# Altium schematic symbol library Schlib_Acura.SchLib: 57 symbols
Pins are listed as number, name and electrical type; pins without a type are passive.

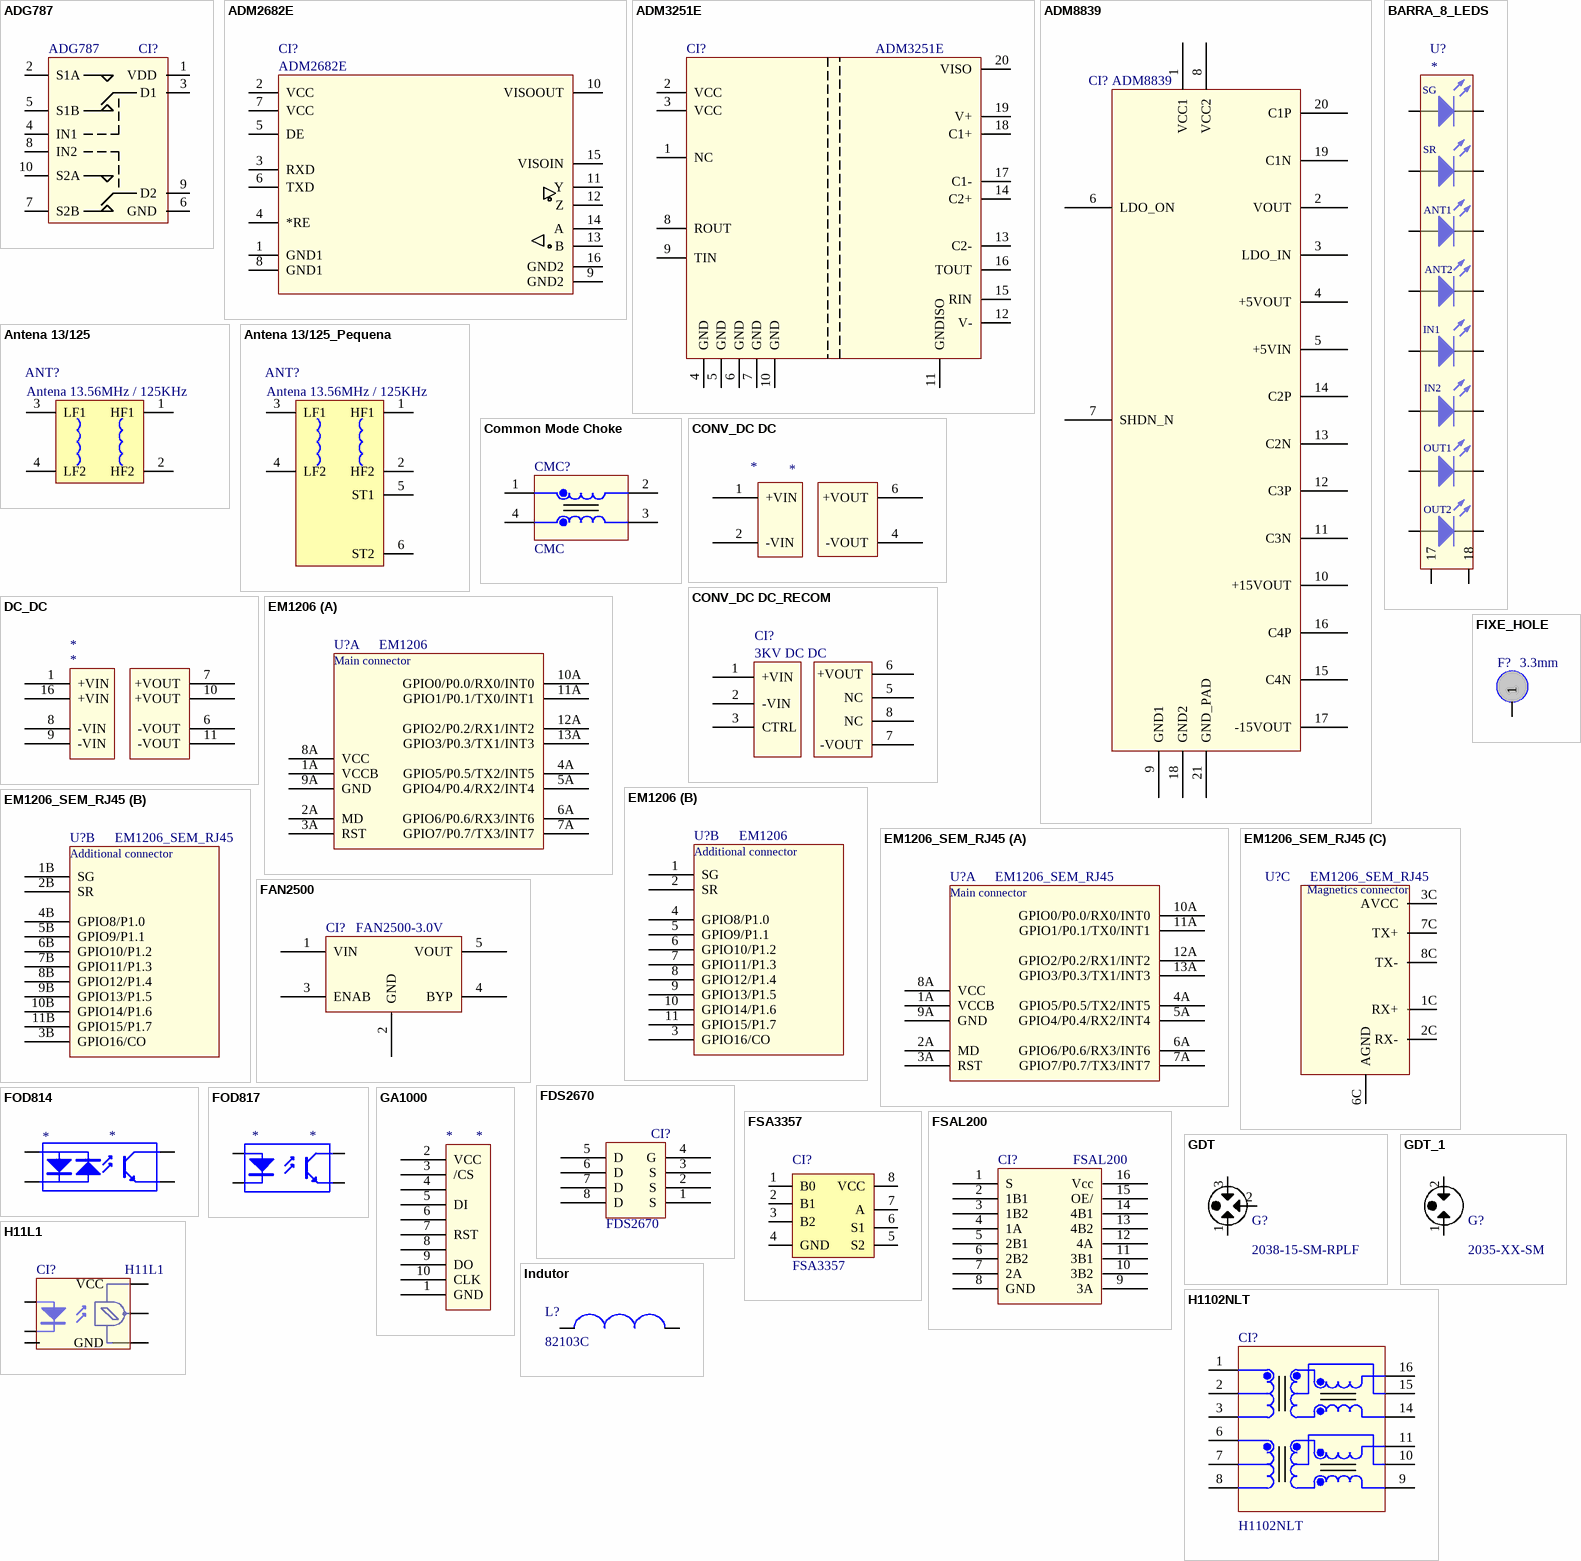
[diagram p0: symbols ADG787 to Indutor]

## ADG787
designator CI?
Part#: ADG787BRMZ; Fabricante: Analog Devices; Cod. Protheus: *
footprint 10-MSOP - S/GND
pins: 1 VDD (power), 2 S1A (power), 3 D1 (power), 4 IN1 (power), 5 S1B (power), 6 GND (power), 7 S2B (power), 8 IN2 (power), 9 D2 (power), 10 S2A (power)

## ADM2682E
designator CI?
5 kV rms Signal and Power Isolated  RS-485 Transceiver with ±15 kV ESD; Part#: ADM2682EBRIZ; Cod. Protheus: ???; Fabricante: Analog Devices; Descrição: Isolated  RS-485 Transceiver
footprint RI-16-1 (For ADM2682E)
pins: 1 GND1, 2 VCC, 3 RXD, 4 *RE, 5 DE, 6 TXD, 7 VCC, 8 GND1, 9 GND2, 10 VISOOUT, 11 Y, 12 Z, 13 B, 14 A, 15 VISOIN, 16 GND2

## ADM3251E
designator CI?
Isolated, Single-Channel  RS-232 Line Driver/Receiver; Part#: ADM3251EARWZ; Fabricante: Analog Devices; Cod. Protheus: ???; Descrição: Isolated, Single-Channel  RS-232 Line Driver/Receiver
footprint RW-20 (For ADM3251E)
pins: 1 NC, 2 VCC, 3 VCC, 4 GND, 5 GND, 6 GND, 7 GND, 8 ROUT, 9 TIN, 10 GND, 11 GNDISO, 12 V-, 13 C2-, 14 C2+, 15 RIN, 16 TOUT, 17 C1-, 18 C1+, 19 V+, 20 VISO

## ADM8839
designator CI?
IC CHARGE PUMP REG TFT 20LFCSP; Part#: ADM8839ACPZ; Fabricante: Analog Devices Inc; Descrição: IC CHARGE PUMP REG TFT 20LFCSP; DigiKey Part#: ADM8839ACPZ-ND
footprint LFCSP-VQ
pins: 1 VCC1, 2 VOUT, 3 LDO_IN, 4 +5VOUT, 5 +5VIN, 6 LDO_ON, 7 SHDN_N, 8 VCC2, 9 GND1, 10 +15VOUT, 11 C3N, 12 C3P, 13 C2N, 14 C2P, 15 C4N, 16 C4P, 17 -15VOUT, 18 GND2, 19 C1N, 20 C1P, 21 GND_PAD

## Antena 13/125
designator ANT?, comment Antena 13.56MHz / 125KHz
footprint Antena 13/125 - Pequena
pins: 1 HF1, 2 HF2, 3 LF1, 4 LF2

## Antena 13/125_Pequena
designator ANT?, comment Antena 13.56MHz / 125KHz
footprint Antena 13/125 - Pequena
pins: 1 HF1, 2 HF2, 3 LF1, 4 LF2, 5 ST1, 6 ST2

## BARRA_8_LEDS
designator U?
footprint BARRA_8_LEDS_3MM
pins: 1 A, 2 K, 3 A, 4 K, 5 A, 6 K, 7 A, 8 K, 9 A, 10 K, 11 A, 12 K, 13 A, 14 K, 15 A, 16 K, 17, 18
text: SG; SR; ANT1; ANT2; IN1; IN2; OUT1; OUT2

## Common Mode Choke
designator CMC?, comment CMC
XFRMR MAGNETIC 1PORT 1:1 10/100
footprint Common Mode Choke
pins: 1, 2, 3, 4

## CONV_DC DC
designator *
footprint NMR100 (CONV DC DC)
pins: 1 +VIN (power), 2 -VIN (power), 4 -VOUT (power), 6 +VOUT (power)

## CONV_DC DC_RECOM
designator CI?, comment 3KV DC DC
CONV DC/DC 1W SGL 5V OUT SIP8; Part#: RSO-2405SZ/H3; Fabricante: Recom Power; Descrição: CONV DC/DC 1W SGL 5V OUT SIP8; DigiKey Part#: 945-1331-ND
footprint RSO-XXXX (CONV DC DC RECOM)
pins: 1 +VIN, 2 -VIN, 3 CTRL, 5 NC, 6 +VOUT, 7 -VOUT, 8 NC

## DC_DC
designator *
footprint CONV_DC_DC_SRS
pins: 1 +VIN (power), 6 -VOUT (power), 7 +VOUT (power), 8 -VIN (power), 9 -VIN (power), 10 +VOUT (power), 11 -VOUT (power), 16 +VIN (power)

## EM1206
designator U?
BASIC-programmable embedded module
footprint RJ203+EM1206 (BASIC-programmable embedded module); pin to pad 1>1B 2>2B 3>3B 4>4B 5>5B 6>6B 7>7B 8>8B 9>9B 10>10B 11>11B
part A pins: 1A VCCB (power), 2A MD (power), 3A RST (power), 4A GPIO5/P0.5/TX2/INT5 (power), 5A GPIO4/P0.4/RX2/INT4 (power), 6A GPIO6/P0.6/RX3/INT6 (power), 7A GPIO7/P0.7/TX3/INT7 (power), 8A VCC (power), 9A GND (power), 10A GPIO0/P0.0/RX0/INT0 (power), 11A GPIO1/P0.1/TX0/INT1 (power), 12A GPIO2/P0.2/RX1/INT2 (power), 13A GPIO3/P0.3/TX1/INT3 (power)
part B pins: 1 SG (power), 2 SR (power), 3 GPIO16/CO (power), 4 GPIO8/P1.0 (power), 5 GPIO9/P1.1 (power), 6 GPIO10/P1.2 (power), 7 GPIO11/P1.3 (power), 8 GPIO12/P1.4 (power), 9 GPIO13/P1.5 (power), 10 GPIO14/P1.6 (power), 11 GPIO15/P1.7 (power)
part A text: Main connector
part B text: Additional connector

## EM1206_SEM_RJ45
designator U?
BASIC-programmable embedded module
footprint EM1206 (BASIC-programmable embedded module)
part A pins: 1A VCCB (power), 2A MD (power), 3A RST (power), 4A GPIO5/P0.5/TX2/INT5 (power), 5A GPIO4/P0.4/RX2/INT4 (power), 6A GPIO6/P0.6/RX3/INT6 (power), 7A GPIO7/P0.7/TX3/INT7 (power), 8A VCC (power), 9A GND (power), 10A GPIO0/P0.0/RX0/INT0 (power), 11A GPIO1/P0.1/TX0/INT1 (power), 12A GPIO2/P0.2/RX1/INT2 (power), 13A GPIO3/P0.3/TX1/INT3 (power)
part B pins: 1B SG (power), 2B SR (power), 3B GPIO16/CO (power), 4B GPIO8/P1.0 (power), 5B GPIO9/P1.1 (power), 6B GPIO10/P1.2 (power), 7B GPIO11/P1.3 (power), 8B GPIO12/P1.4 (power), 9B GPIO13/P1.5 (power), 10B GPIO14/P1.6 (power), 11B GPIO15/P1.7 (power)
part C pins: 1C RX+, 2C RX-, 3C AVCC, 6C AGND, 7C TX+, 8C TX-
part A text: Main connector
part B text: Additional connector
part C text: Magnetics connector

## FAN2500
designator CI?, comment FAN2500-3.0V
IC REG LDO 3V 0.1A SOT23-5; Part#: FAN2500S30X; Fabricante: Fairchild; Descrição: IC REG LDO 3V 0.1A SOT23-5; DigiKey Part#: FAN2500S30XCT-ND
footprint SOT-23
pins: 1 VIN (power), 2 GND (power), 3 ENAB, 4 BYP, 5 VOUT (power)

## FDS2670
designator CI?
200V N-Channel PowerTrench MOSFET; Fabricante: Fairchild; Cod. Protheus: *; Part#: FDS2670
footprint 8-SOIC
pins: 1 S (power), 2 S (power), 3 S (power), 4 G (power), 5 D (power), 6 D (power), 7 D (power), 8 D (power)

## FIXE_HOLE
designator F?, comment 3.3mm
footprint FIXE_HOLE
pins: 1

## FOD814
designator *
footprint FOD814
pins: 1 AK "Anode", 2 KA "Cathode", 3 E "Emitter", 4 C "Collector"

## FOD817
designator *
footprint FOD814
pins: 1 AK "Anode", 2 KA "Cathode", 3 E "Emitter", 4 C "Collector"

## FSA3357
designator CI?
IC SWITCH SP3T US8; Part#: FSA3357K8X; Fabricante: Fairchild; Cod. Protheus: ???; Descrição: IC SWITCH SP3T US8
footprint MAB08A (FSA3357)
pins: 1 B0, 2 B1, 3 B2, 4 GND (power), 5 S2, 6 S1, 7 A, 8 VCC (power)

## FSAL200
designator CI?
footprint FSAL2--_QSOP
pins: 1 S (power), 2 1B1 (power), 3 1B2 (power), 4 1A (power), 5 2B1 (power), 6 2B2 (power), 7 2A (power), 8 GND (power), 9 3A (power), 10 3B2 (power), 11 3B1 (power), 12 4A (power), 13 4B2 (power), 14 4B1 (power), 15 OE/ (power), 16 Vcc (power)

## GA1000
designator *
footprint GA1000_PCB
pins: 1 GND (power), 2 VCC (power), 3 /CS (power), 4 (power), 5 DI (power), 6 (power), 7 RST (power), 8 (power), 9 DO (power), 10 CLK (power)

## GDT
designator G?, comment 2038-15-SM-RPLF
GAS DISCHARGE TUBE GDT 150V SM; Fabricante: Bourns; Cod. Protheus: ???; Part#: 2038-15-SM-RPLF; Descrição: GAS DISCHARGE TUBE GDT 150V SM
footprint GDT (Gas Discharge Tube)
pins: 1 Signal, 2 GND, 3 Signal

## GDT_1
designator G?, comment 2035-XX-SM
Precision Gas Discharge Tube Surge Protector; Part#: 2035-09-SM-RPLF; Descrição: SURGE ARRESTER GDT 90V SMT; Fabricante: Bourns; Cod. Protheus: ???
footprint GDT2 (Gas Discharge Tube)
pins: 1 GND, 2 Signal

## H11L1
designator CI?
Part#: H11L1SR2M; Descrição: OPTOCOUPLER SCHMITT TRIG 6-SMD; Fabricante: Fairchild; USD: 1.10
footprint 4N25_SMD
pins: 1 ANODE "Anode", 2 CATHODE "Cathode", 3 NC "Cathode", 4 VOUT "Emitter", 5 GND (power) "Emitter", 6 VCC (power) "Collector"

## H1102NLT
designator CI?
XFRMR MAGNETIC 1PORT 1:1 10/100; Fabricante: Pulse Electronics Corporation; Part#: H1102NLT
footprint H1102
pins: 1, 2, 3, 6, 7, 8, 9, 10, 11, 14, 15, 16

## Indutor
designator L?, comment 82103C
footprint 8200 Series (Inductor)
pins: 1 (power), 2 (power)

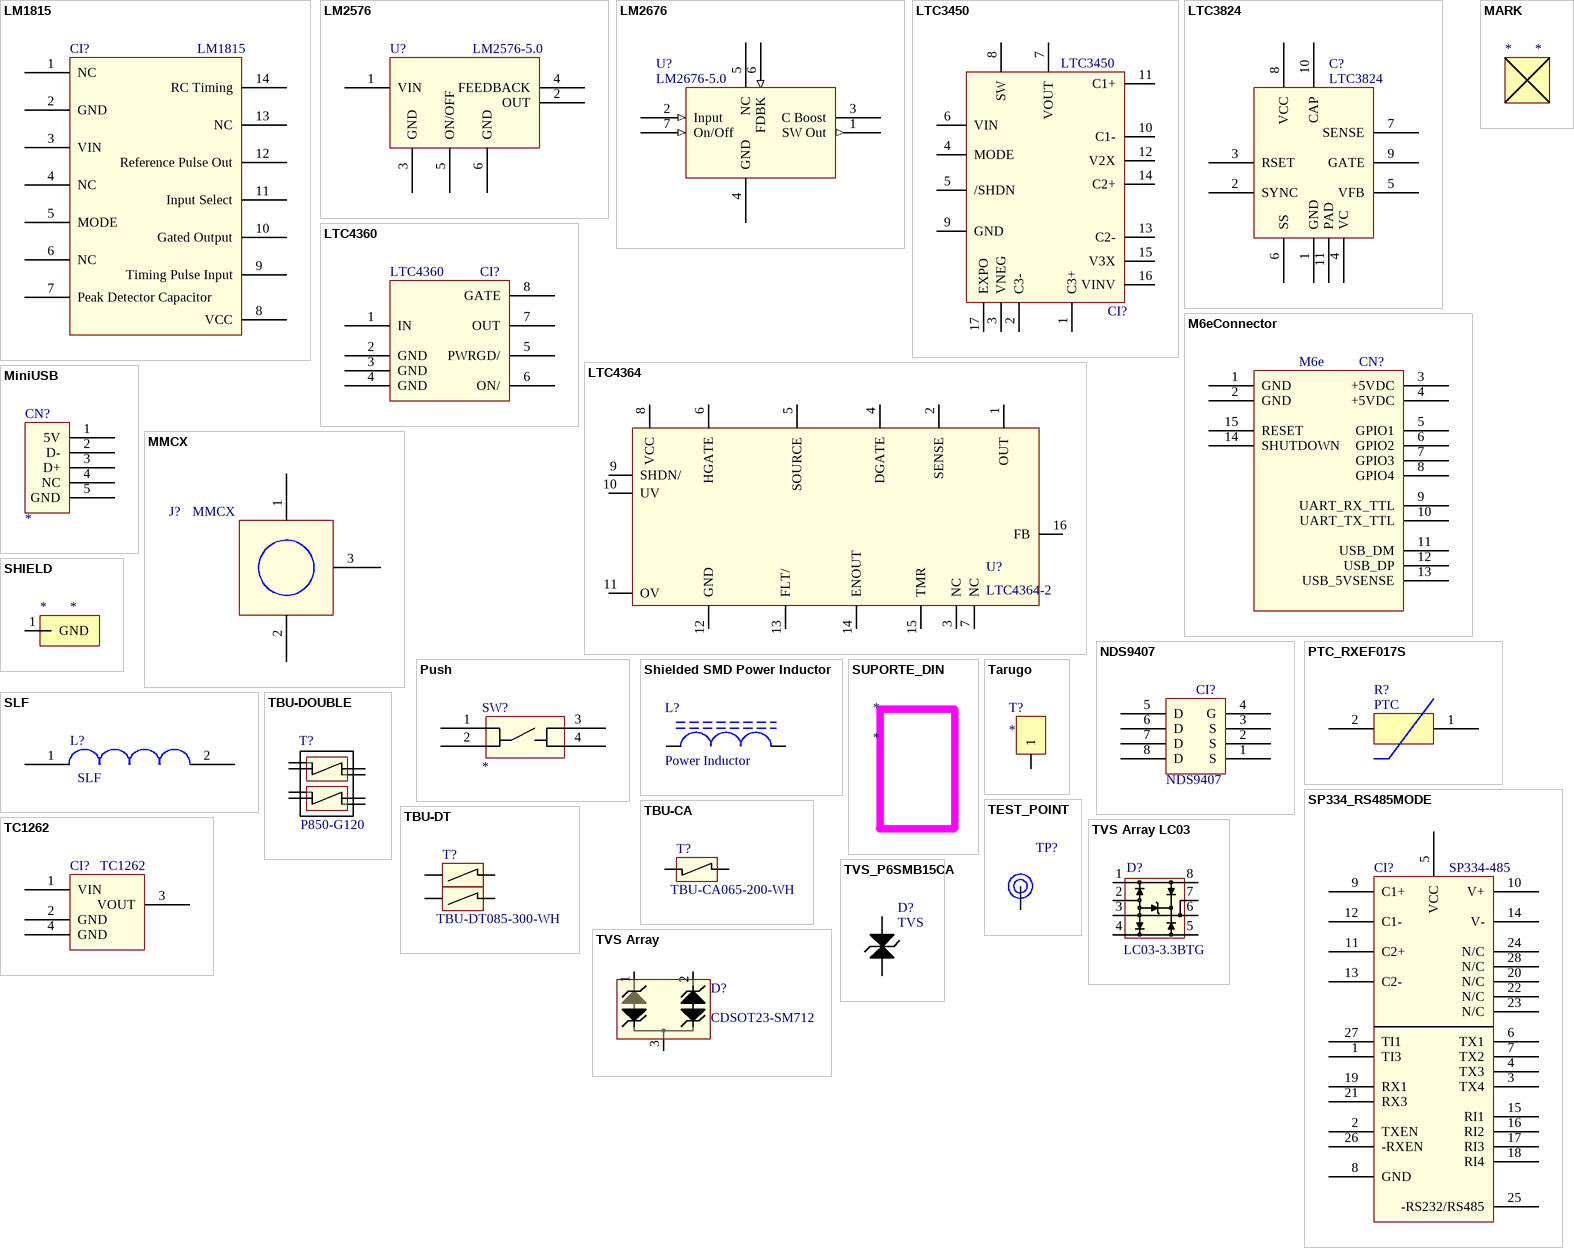
[diagram p1: symbols LM1815 to TVS_P6SMB15CA]

## LM1815
designator CI?
Adaptive Variable Reluctance Sensor Amplifier
footprint DIP-14 (DIP; 14 Leads; Row Spacing 7.62 mm; Pitch 2.54 mm)
pins: 1 NC, 2 GND (power), 3 VIN (power), 4 NC, 5 MODE, 6 NC, 7 Peak Detector Capacitor, 8 VCC (power), 9 Timing Pulse Input, 10 Gated Output, 11 Input Select, 12 Reference Pulse Out, 13 NC, 14 RC Timing

## LM2576
designator U?, comment LM2576-5.0
IC REG BUCK 5V 3A TO263-5; Part#: LM2576HVSX-5.0/NOPB; Fabricante: Texas Instruments; DigiKey Part#: LM2576HVSX-5.0/NOPBCT-ND; Descrição: IC REG BUCK 5V 3A TO263-5
footprint TO-263 5pin
pins: 1 VIN, 2 OUT, 3 GND (power), 4 FEEDBACK, 5 ON/OFF (power), 6 GND (power)

## LM2676
designator U?, comment LM2676-5.0
footprint TO263 PKG (TO-263 Surface Mount Power Package)
pins: 1 SW Out (out), 2 Input (in), 3 C Boost, 4 GND (power), 5 NC (power), 6 FDBK (in), 7 On/Off (in)

## LTC3450
designator CI?
IC CONV PS TRIPLE TFT/LCD 16QFN; Part#: LTC3450EUD#PBF; Fabricante: Linear Technology; Cod. Protheus: *; DigiKey Part#: LTC3450EUD#PBF-ND; Descrição: IC CONV PS TRIPLE TFT/LCD 16QFN
footprint 16-LPQFN (16-Lead Plastic QFN (3mm × 3mm))
pins: 1 C3+, 2 C3-, 3 VNEG, 4 MODE, 5 /SHDN, 6 VIN, 7 VOUT, 8 SW, 9 GND, 10 C1-, 11 C1+, 12 V2X, 13 C2-, 14 C2+, 15 V3X, 16 VINV, 17 EXPO

## LTC3824
designator C?
High Voltage Step-Down Controller
footprint LTC3824
pins: 1 GND (power), 2 SYNC (power), 3 RSET (power), 4 VC (power), 5 VFB (power), 6 SS (power), 7 SENSE (power), 8 VCC (power), 9 GATE (power), 10 CAP (power), 11 PAD (power)

## LTC4360
designator CI?
Part#: LTC4360-1; Fabricante: Linear Technology; Cod. Protheus: *
footprint LTC4360 (Overvoltage Protection)
pins: 1 IN (power), 2 GND (power), 3 GND (power), 4 GND (power), 5 PWRGD/, 6 ON/, 7 OUT (power), 8 GATE (power)

## LTC4364
designator U?, comment LTC4364-2
Surge Stopper; Part#: LTC4364IMS-2#PBF; Cod. Protheus: ???; Fabricante: Linear Technology; Descrição: Surge Stopper with Ideal Diode
footprint LTC4364 (Surge Stopper)
pins: 1 OUT (power), 2 SENSE (power), 3 NC (power), 4 DGATE (power), 5 SOURCE (power), 6 HGATE (power), 7 NC (power), 8 VCC (power), 9 SHDN/, 10 UV (power), 11 OV (power), 12 GND (power), 13 FLT/ (power), 14 ENOUT (power), 15 TMR (power), 16 FB (power)

## M6eConnector
designator CN?, comment M6e
M6e module connector
footprint M6e_PicoBlade 1.25mm SMD (M6e_0532611571_1.25mm Pitch PicoBlade Header, Surface Mount, Right Angle, Lead-Free, 15 Circuits)
footprint M6e_PicoBlade 1.25mm TH (M6e_0530481510_1.25mm Pitch PicoBlade Header, Surface Mount, Right Angle, Lead-Free, 15 Circuits)
footprint DUO_M6e_PicoBlade 1.25mm TH
pins: 1 GND (power), 2 GND (power), 3 +5VDC (power), 4 +5VDC (power), 5 GPIO1 (power), 6 GPIO2 (power), 7 GPIO3 (power), 8 GPIO4 (power), 9 UART_RX_TTL (power), 10 UART_TX_TTL (power), 11 USB_DM (power), 12 USB_DP (power), 13 USB_5VSENSE (power), 14 SHUTDOWN (power), 15 RESET (power)

## MARK
designator *
footprint PICK_PLACE_MARK

## MiniUSB
designator CN?
Mini USB 5 vias
footprint MINI_USB (Mini USB 5 vias)
pins: 1 5V (power), 2 D- (power), 3 D+ (power), 4 NC (power), 5 GND (power)

## MMCX
designator J?
CONN MMCX JACK 50 OHM EDGE MNT; Part#: 135-3711-801; Fabricante: Emerson; Descrição: CONN MMCX JACK 50 OHM EDGE MNT; DigiKey Part#: J603-ND
footprint MMCX
pins: 1 GND, 2 GND, 3 SIGNAL

## NDS9407
designator CI?
60V P-Channel PowerTrench MOSFET
footprint NDS9407CT
pins: 1 S (power), 2 S (power), 3 S (power), 4 G (power), 5 D (power), 6 D (power), 7 D (power), 8 D (power)

## PTC_RXEF017S
designator R?, comment PTC
footprint PTC
pins: 1 0 (power), 2 1 (power)

## Push
designator SW?
footprint SW SPST-4 (Circuit Breaker; 2 Leads)
pins: 1 (power), 2 (power), 3 (power), 4 (power)

## SHIELD
designator *
footprint SHIELD_PCB
pins: 1 GND

## Shielded SMD Power Inductor
designator L?, comment Power Inductor
footprint Power Inductor (Inductor)
pins: 1 (power), 2 (power)

## SLF
designator L?
footprint SLF10165T
pins: 1 0 (power), 2 1 (power)

## SP334_RS485MODE
designator CI?, comment SP334-485
footprint SP334
pins: 1 TI3 (power), 2 TXEN (power), 3 TX4 (power), 4 TX3 (power), 5 VCC (power), 6 TX1 (power), 7 TX2 (power), 8 GND (power), 9 C1+ (power), 10 V+ (power), 11 C2+ (power), 12 C1- (power), 13 C2- (power), 14 V- (power), 15 RI1 (power), 16 RI2 (power), 17 RI3 (power), 18 RI4 (power), 19 RX1 (power), 20 N/C (power), 21 RX3 (power), 22 N/C (power), 23 N/C (power), 24 N/C (power), 25 -RS232/RS485 (power), 26 -RXEN (power), 27 TI1 (power), 28 N/C (power)

## SUPORTE_DIN
designator *
footprint SUP_DIN_SP-TR_PATOLA
footprint SUP_DIN_PHOENIX

## Tarugo
designator T?
footprint TARUGO
pins: 1

## TBU-CA
designator T?, comment TBU-CA065-200-WH
SURGE SUPP TBU 200MA 650VIMP SMD; Cod. Protheus: ???; Fabricante: Bourns; Descrição: SURGE SUPP TBU 200MA 650VIMP SMD; Part#: TBU-CA065-200-WH
footprint TBU-CA
pins: 1 IN/OUT, 3 IN/OUT

## TBU-DOUBLE
designator T?, comment P850-G120
SURGE SUPP TBU 100MA 850VIMP SMD; Part#: P850-G120-WH; Fabricante: Bourns; Descrição: SURGE SUPP TBU 100MA 850VIMP SMD
footprint TBU-P850
pins: 1 TIP IN, 1A TIP IN, 3 TIP OUT, 3A TIP OUT, 4 RING OUT, 4A RING OUT, 6 RING IN, 6A RING IN

## TBU-DT
designator T?, comment TBU-DT085-300-WH
SURGE SUPP TBU DL 300MA 850VIMP; Cod. Protheus: ???; Fabricante: Bourns; Descrição: SURGE SUPP TBU DL 300MA 850VIMP; Part#: TBU-DT085-300-WH
footprint TBU-DT 085
pins: 1 Line, 2 Load, 3 Load, 4 Line

## TC1262
designator CI?
footprint SOT-223
pins: 1 VIN (power), 2 GND (power), 3 VOUT (power), 4 GND (power)

## TEST_POINT
designator TP?, comment TEST POINT  (value not drawn)
footprint TEST_POINT
pins: 1

## TVS Array
designator D?, comment CDSOT23-SM712
IC TVS ARRAY 7V 12V SOT23; Cod. Protheus: ???; Fabricante: Bourns; Descrição: IC TVS ARRAY 7V 12V SOT23; Part#: CDSOT23-SM712
footprint SOT23A (SOT-23; 3 Leads; Body 3.0 x 2.5 mm, inc. leads (LxW max))
pins: 1 0, 2 1, 3 1

## TVS Array LC03
designator D?, comment LC03-3.3BTG
TVS DIODE 3.3VWM 17VC 8SOIC; Cod. Protheus: ???; Fabricante: Bourns; Descrição: TVS DIODE 3.3VWM 17VC 8SOIC; Part#: LC03-3.3BTG
footprint 8-SOIC
pins: 1 Line in, 2 Ref, 3 Ref, 4 Line in, 5 Line out, 6 Ref, 7 Ref, 8 Line out

## TVS_P6SMB15CA
designator D?, comment TVS
footprint TVS
pins: 1 0, 2 1

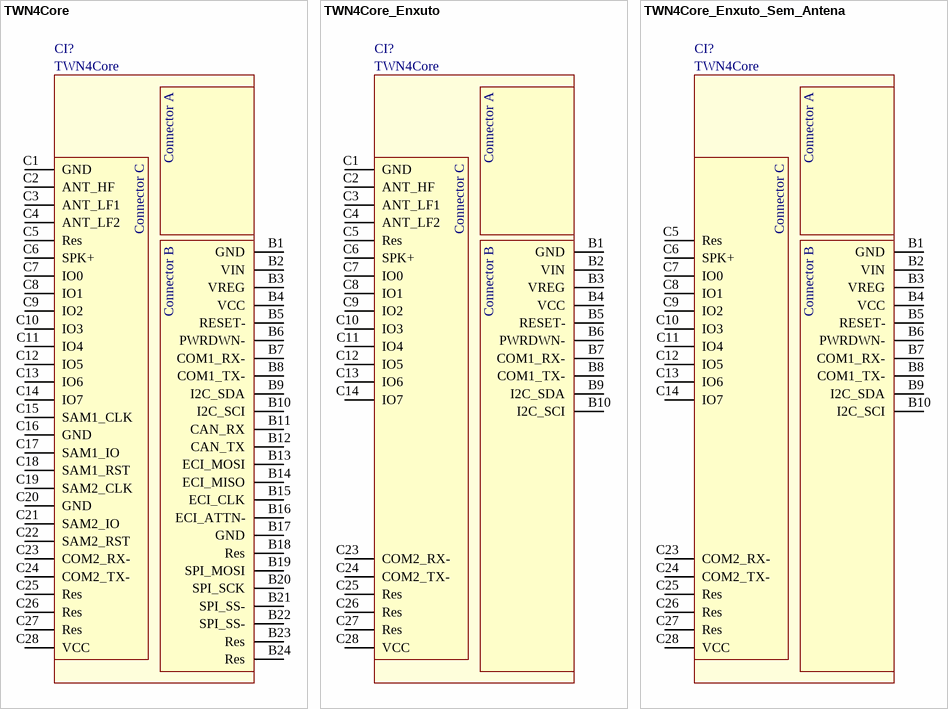
[diagram p2: symbols TWN4Core to TWN4Core_Enxuto_Sem_Antena]

## TWN4Core
designator CI?
footprint TWN4 ARM EM CIMA - TOP (TWN4 Core Module)
footprint TWN4 ARM EM CIMA - BOTTOM (TWN4 Core Module)
footprint TWN4 ARM ABAIXO - TOP (TWN4 Core Module)
footprint TWN4 ARM ABAIXO - BOTTOM (TWN4 Core Module)
pins: B1 GND "Ground", B2 VIN "Unregulated input to on-board voltage regulator", B3 VREG "3.3V output from on-board voltage regulator", B4 VCC "3.3V power supply input", B5 RESET- "Low active TTL input with internal pull-up resistor  for hard reset.", B6 PWRDWN- "Low active TTL input with internal pull-up resistor  for turning off the voltage regulator.", B7 COM1_RX- "Low active TTL input with internal pull-up resistor  of asynchronous RXD to COM1.", B8 COM1_TX- "Low active TTL output (push/pull) of asynchronous  TXD from COM1.", B9 I2C_SDA "Data pin of I2C interface. No internal pull up.", B10 I2C_SCI "Clock pin of I2C interface. No internal pull up.", B11 CAN_RX "TTL RX pin of CAN interface. A external interface  circuit is required.", B12 CAN_TX "TTL TX pin of CAN interface. A external interface  circuit is required.", B13 ECI_MOSI "Pin MOSI of ECI", B14 ECI_MISO "Pin MISO of ECI.", B15 ECI_CLK "Pin CLK of ECI.", B16 ECI_ATTN- "Pin ATTN- of ECI.", B17 GND "Ground", B18 Res "This pin is reserved for future purposes.", B19 SPI_MOSI "Pin MOSI of SPI interface", B20 SPI_SCK "Pin MISO of SPI interface", B21 SPI_SS- "Pin SS- of SPI interface", B22 SPI_SS- "Pin SS- of SPI interface", B23 Res "This pin is reserved for future purposes.", B24 Res "This pin is reserved for future purposes.", C1 GND "Ground", C2 ANT_HF "Together with pin C1, this pin builds a 50 ohm  output for connecting external 13.56MHz antennas", C3 ANT_LF1 "Output 1 for connecting external 125 kHz /  134.2 kHz antennas.", C4 ANT_LF2 "Output 2 for connecting external 125 kHz /  134.2 kHz antennas.", C5 Res "This pin is reserved for future purposes.", C6 SPK+ "Digitally modulated output for a speaker. Second  connection for the speaker is ground. The  impedance of the speaker should be greater than  24 ohm.", C7 IO0 "GPIO0, I/O pin for general purposes.", C8 IO1 "GPIO1, I/O pin for general purposes.", C9 IO2 "GPIO2, I/O pin for general purposes.", C10 IO3 "GPIO3, I/O pin for general purposes.", C11 IO4 "GPIO4, I/O pin for general purposes.", C12 IO5 "GPIO5, I/O pin for general purposes.", C13 IO6 "GPIO6, I/O pin for general purposes.", C14 IO7 "GPIO7, I/O pin for general purposes.", C15 SAM1_CLK "Clock output for SAM1", C16 GND "Ground", C17 SAM1_IO "I/O line for SAM1", C18 SAM1_RST "Reset output for SAM1", C19 SAM2_CLK "Clock output for SAM2", C20 GND "Ground", C21 SAM2_IO "I/O line for SAM2", C22 SAM2_RST "Reset output for SAM2", C23 COM2_RX- "Low active TTL input with internal pull-up resistor  of asynchronous RXD to COM2.", C24 COM2_TX- "Low active TTL output (push/pull) of asynchronous  TXD from COM2.", C25 Res "This pin is reserved for future purposes.", C26 Res "This pin is reserved for future purposes.", C27 Res "This pin is reserved for future purposes.", C28 VCC "3.3V power supply input or output for supplying  external components. Internally connected to B4."
text: Connector A; Connector C; Connector B

## TWN4Core_Enxuto
designator CI?, comment TWN4Core
footprint TWN4 ARM EM CIMA - TOP Enxuto (TWN4 Core Module)
footprint TWN4 ARM EM CIMA - BOTTOM Enxuto (TWN4 Core Module)
footprint TWN4 ARM ABAIXO - TOP ENXUTO (TWN4 Core Module)
footprint TWN4 ARM ABAIXO - BOTTOM ENXUTO (TWN4 Core Module)
pins: B1 GND "Ground", B2 VIN "Unregulated input to on-board voltage regulator", B3 VREG "3.3V output from on-board voltage regulator", B4 VCC "3.3V power supply input", B5 RESET- "Low active TTL input with internal pull-up resistor  for hard reset.", B6 PWRDWN- "Low active TTL input with internal pull-up resistor  for turning off the voltage regulator.", B7 COM1_RX- "Low active TTL input with internal pull-up resistor  of asynchronous RXD to COM1.", B8 COM1_TX- "Low active TTL output (push/pull) of asynchronous  TXD from COM1.", B9 I2C_SDA "Data pin of I2C interface. No internal pull up.", B10 I2C_SCI "Clock pin of I2C interface. No internal pull up.", C1 GND "Ground", C2 ANT_HF "Together with pin C1, this pin builds a 50 ohm  output for connecting external 13.56MHz antennas", C3 ANT_LF1 "Output 1 for connecting external 125 kHz /  134.2 kHz antennas.", C4 ANT_LF2 "Output 2 for connecting external 125 kHz /  134.2 kHz antennas.", C5 Res "This pin is reserved for future purposes.", C6 SPK+ "Digitally modulated output for a speaker. Second  connection for the speaker is ground. The  impedance of the speaker should be greater than  24 ohm.", C7 IO0 "GPIO0, I/O pin for general purposes.", C8 IO1 "GPIO1, I/O pin for general purposes.", C9 IO2 "GPIO2, I/O pin for general purposes.", C10 IO3 "GPIO3, I/O pin for general purposes.", C11 IO4 "GPIO4, I/O pin for general purposes.", C12 IO5 "GPIO5, I/O pin for general purposes.", C13 IO6 "GPIO6, I/O pin for general purposes.", C14 IO7 "GPIO7, I/O pin for general purposes.", C23 COM2_RX- "Low active TTL input with internal pull-up resistor  of asynchronous RXD to COM2.", C24 COM2_TX- "Low active TTL output (push/pull) of asynchronous  TXD from COM2.", C25 Res "This pin is reserved for future purposes.", C26 Res "This pin is reserved for future purposes.", C27 Res "This pin is reserved for future purposes.", C28 VCC "3.3V power supply input or output for supplying  external components. Internally connected to B4."
text: Connector A; Connector C; Connector B

## TWN4Core_Enxuto_Sem_Antena
designator CI?, comment TWN4Core
footprint TWN4 ARM ABAIXO - TOP ENXUTO - SEM ANT (TWN4 Core Module)
pins: B1 GND "Ground", B2 VIN "Unregulated input to on-board voltage regulator", B3 VREG "3.3V output from on-board voltage regulator", B4 VCC "3.3V power supply input", B5 RESET- "Low active TTL input with internal pull-up resistor  for hard reset.", B6 PWRDWN- "Low active TTL input with internal pull-up resistor  for turning off the voltage regulator.", B7 COM1_RX- "Low active TTL input with internal pull-up resistor  of asynchronous RXD to COM1.", B8 COM1_TX- "Low active TTL output (push/pull) of asynchronous  TXD from COM1.", B9 I2C_SDA "Data pin of I2C interface. No internal pull up.", B10 I2C_SCI "Clock pin of I2C interface. No internal pull up.", C5 Res "This pin is reserved for future purposes.", C6 SPK+ "Digitally modulated output for a speaker. Second  connection for the speaker is ground. The  impedance of the speaker should be greater than  24 ohm.", C7 IO0 "GPIO0, I/O pin for general purposes.", C8 IO1 "GPIO1, I/O pin for general purposes.", C9 IO2 "GPIO2, I/O pin for general purposes.", C10 IO3 "GPIO3, I/O pin for general purposes.", C11 IO4 "GPIO4, I/O pin for general purposes.", C12 IO5 "GPIO5, I/O pin for general purposes.", C13 IO6 "GPIO6, I/O pin for general purposes.", C14 IO7 "GPIO7, I/O pin for general purposes.", C23 COM2_RX- "Low active TTL input with internal pull-up resistor  of asynchronous RXD to COM2.", C24 COM2_TX- "Low active TTL output (push/pull) of asynchronous  TXD from COM2.", C25 Res "This pin is reserved for future purposes.", C26 Res "This pin is reserved for future purposes.", C27 Res "This pin is reserved for future purposes.", C28 VCC "3.3V power supply input or output for supplying  external components. Internally connected to B4."
text: Connector A; Connector C; Connector B